# EAGLE library part DSC1121CE5-050.0000 (library DSC1121CE5-050.0000)
Standard Clock Oscillators 3225 pkg -20-70C 10ppm 050.0000MHz Source: Datasheet <https://componentsearchengine.com/Datasheets/1/DSC1121CE5-050.0000.pdf>
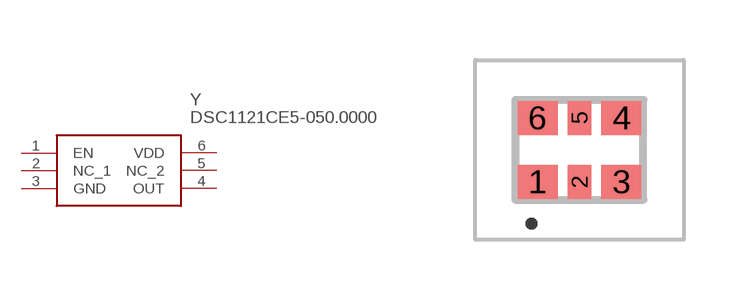
[diagram p0: symbol with the pads of DSC1121CE50500000; footprint DSC1121CE50500000]

Designator prefix Y

## DSC1121CE5-050.0000 (Description: Standard Clock Oscillators 3225 pkg -20-70C 10ppm 050.0000MHz; Height: 0.9mm; Manufacturer_Name: Microchip; Manufacturer_Part_Number: DSC1121CE5-050.0000; Mouser_Part_Number: 998-1121CE5-050.0000; Mouser_Price-Stock: https://www.mouser.com/Search/Refine.aspx?Keyword=998-1121CE5-050.0000)  [DSC1121CE50500000]
1  EN
2  NC_1
3  GND
4  OUT
5  NC_2
6  VDD

## Footprint DSC1121CE50500000 (pad centres in mm)
DSC1121CE5-050.0000-3
smd 1 x 0.85: 1 -1.05,-0.8; 3 1.05,-0.8; 4 1.05,0.8; 6 -1.05,0.8
smd 0.6 x 0.85: 2 0,-0.8; 5 0,0.8